# Altium footprint library LacewingPXE_v3p1.PcbLib: 35 footprints (part 1 of 3)
Each footprint in its own frame and in the unit in brackets; x right, y up, seen from the top. Pads: shape width x height; smd on the part's side, far side on the other; paste and mask are expansions set on the pad; w line width, h text height; cw(c..) or ccw(c..) is an arc to the next point about the centre after c.
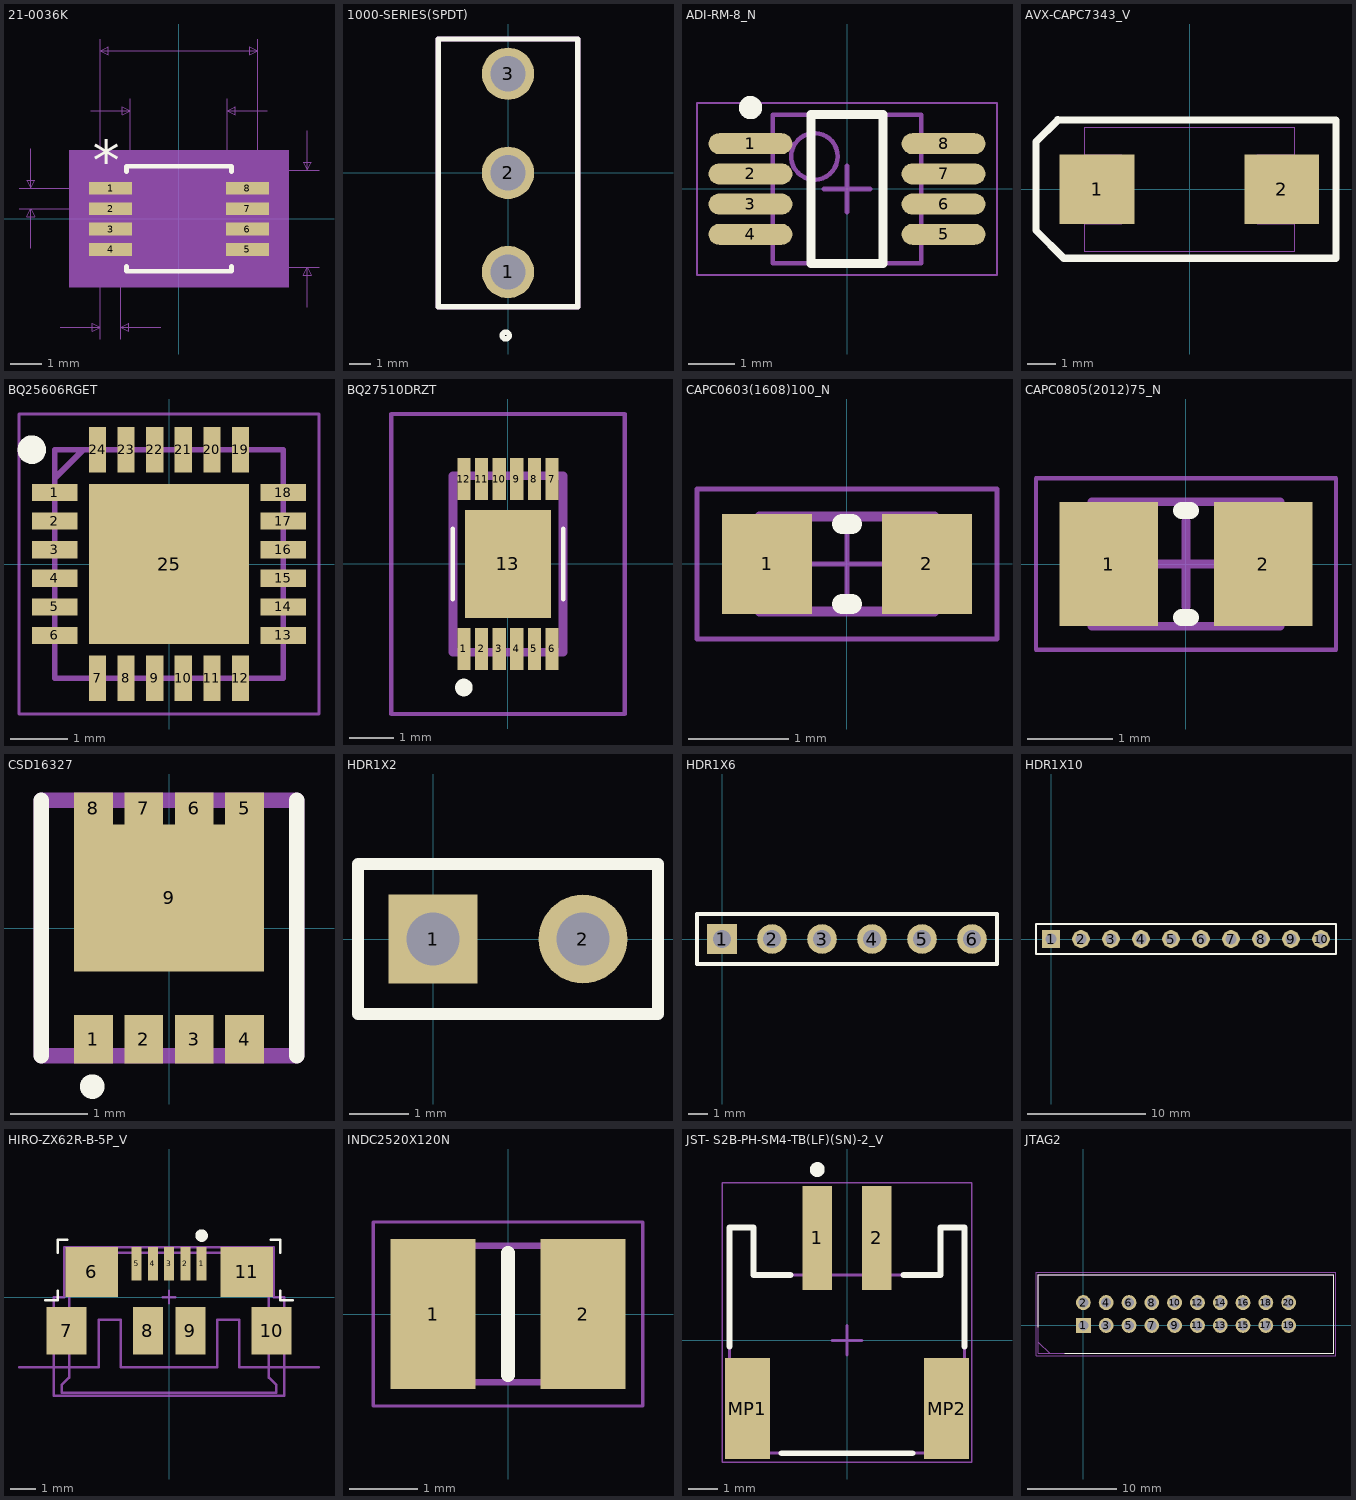
[diagram p0: the footprints below, top view; thin cyan lines are the x and y axes]

## 21-0036K [mil]
pads (8):
  rect 54x16 smd paste+0 mask+0: 1(-86,38.39) 2(-86,12.8) 3(-86,-12.8) 4(-86,-38.39) 5(86,-38.39) 6(86,-12.8) 7(86,12.8) 8(86,38.39)
Top Overlay:
  lines w6: -66,-59.49 -66,-66 66,-66 66,-59.49 ; -66,59.49 -66,66 66,66 66,59.49
  text "*" at -108.5,49.39 h50
Mechanical 5:
  region: 138,-86 -138,-86 -138,86 138,86
Mechanical 7:
  lines w1: -201,12.8 -86,12.8 ; -201,38.39 -86,38.39 ; -186,-37.2 -186,12.8 ; -186,88.39 -186,38.39 ; -149,-136 -99,-136 ; -111,136 -61,136 ; -99,-151 -99,0 -99,226 ; -73,-151 -73,0 ; -61,0 -61,151 ; -23,-136 -73,-136 ; 0,-61 176,-61 ; 0,61 176,61 ; 61,0 61,151 ; 99,0 99,226 ; 111,136 61,136 ; 161,-111 161,-61 ; 161,111 161,61 ; -186,12.8 -181,2.8 -191,2.8 -186,12.8 ; -186,38.39 -181,48.39 -191,48.39 -186,38.39 ; -99,-136 -109,-141 -109,-131 -99,-136 ; -99,211 -89,206 -89,216 -99,211 ; -99,211 99,211 ; -73,-136 -63,-141 -63,-131 -73,-136 ; -61,136 -71,131 -71,141 -61,136 ; 61,136 71,131 71,141 61,136 ; 99,211 89,206 89,216 99,211 ; 161,-61 166,-71 156,-71 161,-61 ; 161,61 166,71 156,71 161,61
  text "0.026in/0.66mm" at -173.5,-181 h25
  text "0.026in/0.65mm" at -381,13.09 h25
  text "0.122in/3.099mm" at 181,-12.5 h25
  text "0.198in/5.029mm" at -93.75,231 h25
  text "0.122in/3.099mm" at -93.75,156 h25
  text "Alt 2 Padstyle: OX90Y60D30P" at -337.5,-561 h50
  text "Alt 1 Padstyle: OX60Y90D30P" at -337.5,-501 h50
  text "Pin One Padstyle: RX54Y16D0T" at -350,-321 h50
  text "Default Padstyle: RX54Y16D0T" at -350,-261 h50
Mechanical 13:
  lines w0: -12,61 ccw(c0,61) 12,61
  lines w1: -99,-45.39 -61,-45.39 -61,-31.39 -99,-31.39 -99,-45.39 ; -99,-19.8 -61,-19.8 -61,-5.8 -99,-5.8 -99,-19.8 ; -99,5.8 -61,5.8 -61,19.8 -99,19.8 -99,5.8 ; -99,31.39 -61,31.39 -61,45.39 -99,45.39 -99,31.39 ; -61,-61 -61,61 61,61 61,-61 -61,-61 ; 61,-45.39 99,-45.39 99,-31.39 61,-31.39 61,-45.39 ; 61,-19.8 99,-19.8 99,-5.8 61,-5.8 61,-19.8 ; 61,5.8 99,5.8 99,19.8 61,19.8 61,5.8 ; 61,31.39 99,31.39 99,45.39 61,45.39 61,31.39
  text "*" at -58.5,8 h50
Mechanical 15:
  region: -71,-56.39 -123,-56.39 -123,56.39 -71,56.39 -71,71 71,71 71,56.39 123,56.39 123,-56.39 71,-56.39 71,-71 -71,-71
  lines w6: -123,-56.39 -71,-56.39 -71,-71 71,-71 71,-56.39 123,-56.39 123,56.39 71,56.39 71,71 -71,71 -71,56.39 -123,56.39 -123,-56.39
3D body: height 10, standoff 0, extent 0,0 10,10

## 1000-SERIES(SPDT) [mm]
pads (3):
  round 2.48 hole 1.68: 1(0,-4.7) 2(0,0) 3(0,4.7)
Top Overlay:
  circle w0.254: c-0.109,-7.714 r0.164
  lines w0.254: -3.3,-6.35 3.3,-6.35 3.3,6.35 -3.3,6.35 -3.3,-6.35
Mechanical 13:
  lines w0.254: -3.3,-6.35 -3.3,6.35 3.3,6.35 3.3,-6.35 -3.3,-6.35

## ADI-RM-8_N [mm] "SOP, 8-Leads, Body 3x3mm, Pitch 0.65mm, IPC Medium Density"
height 1.1
pads (8):
  oval 1.8x0.45 smd: 1(-2.075,0.975) 2(-2.075,0.325) 3(-2.075,-0.325) 4(-2.075,-0.975) 5(2.075,-0.975) 6(2.075,-0.325) 7(2.075,0.325) 8(2.075,0.975)
Top Overlay:
  circle w0.25: c-2.075,1.75 r0.125
  lines w0.2: -0.775,-1.6 0.775,-1.6 0.775,1.6 -0.775,1.6 -0.775,-1.6
Mechanical 13:
  circle w0.1: c-0.7,0.7 r0.5
  lines w0.1: -1.6,-1.6 1.6,-1.6 1.6,1.6 -1.6,1.6 -1.6,-1.6
Mechanical 15:
  lines w0.05: -3.225,-1.85 3.225,-1.85 3.225,1.85 -3.225,1.85 -3.225,-1.85
  lines w0.1: -0.5,0 0.5,0 ; 0,-0.5 0,0.5
3D body: height 1.1, standoff 0, extent -1.6,-1.6 1.6,1.6

## AVX-CAPC7343_V [mm] "SMT Capacitor, 2 Leads, Body 7.3x4.3mm"
pads (2):
  rect 2.6x2.4 smd: 1(-3.202,0.007) 2(3.198,0.007)
Top Overlay:
  lines w0.254: -4.575,2.4 -5.325,1.65 -5.325,-1.425 -4.362,-2.388 ; -4.572,2.413 5.08,2.406 ; -4.369,-2.388 5.08,-2.388 5.08,2.388
Mechanical 7:
  lines w0.025: -3.651,-1.192 -2.351,-1.192 -2.351,1.208 -3.651,1.208 ; 3.649,-1.192 2.349,-1.192 2.349,1.208 3.649,1.208 ; -3.651,-2.142 -3.651,2.158 3.649,2.158 3.649,-2.142 -3.651,-2.142
  text ".Comment" at -3.575,-2.025 h0.6
  text ".Designator" at -3.575,1.375 h0.6
3D body: height 4.05, standoff 3.9, extent -2.468,-2.017 -1.993,2.005
3D body: height 2.9, standoff 0, extent -3.464,-2.032 3.481,2.039
3D body: height 0.3, standoff 0, extent -3.487,-0.869 -3.392,0.82
3D body: height 0.3, standoff 0, extent 3.308,-0.855 3.512,0.915

## BQ25606RGET [mm] "QFN50P400X400X100-25N"
pads (25):
  rect 0.8x0.3 smd: 1(-2,1.25) 2(-2,0.75) 3(-2,0.25) 4(-2,-0.25) 5(-2,-0.75) 6(-2,-1.25) 13(2,-1.25) 14(2,-0.75) 15(2,-0.25) 16(2,0.25) 17(2,0.75) 18(2,1.25)
  rect 0.3x0.8 smd: 7(-1.25,-2) 8(-0.75,-2) 9(-0.25,-2) 10(0.25,-2) 11(0.75,-2) 12(1.25,-2) 19(1.25,2) 20(0.75,2) 21(0.25,2) 22(-0.25,2) 23(-0.75,2) 24(-1.25,2)
  rect 2.8x2.8 smd: 25(0,0)
Top Overlay:
  circle w0.25: c-2.4,2 r0.125
Mechanical 13:
  lines w0.1: -2,1.5 -1.5,2 ; -2,-2 2,-2 2,2 -2,2 -2,-2
Mechanical 15:
  lines w0.05: -2.625,-2.625 2.625,-2.625 2.625,2.625 -2.625,2.625 -2.625,-2.625
3D body "BQ25606RGET.stp": height 1, standoff 0, extent -2.05,-2.05 2.05,2.05

## BQ27510DRZT [mm]
pads (13):
  rect 0.3x0.95 smd: 1(-1,-1.925) 2(-0.6,-1.925) 3(-0.2,-1.925) 4(0.2,-1.925) 5(0.6,-1.925) 6(1,-1.925) 7(1,1.925) 8(0.6,1.925) 9(0.2,1.925) 10(-0.2,1.925) 11(-0.6,1.925) 12(-1,1.925)
  rect 1.95x2.45 smd: 13(0,0)
Top Overlay:
  lines w0.1: -1.25,-0.8 -1.25,0.8 ; 1.25,-0.8 1.25,0.8
  lines w0.2: -1.1,-2.8 ccw(c-1,-2.8) -0.9,-2.8 ccw(c-1,-2.8) -1.1,-2.8
Mechanical 13:
  lines w0.2: -1.25,-2 1.25,-2 1.25,2 -1.25,2 -1.25,-2
Mechanical 15:
  lines w0.1: -2.65,-3.4 2.65,-3.4 2.65,3.4 -2.65,3.4 -2.65,-3.4

## CAPC0603(1608)100_N [mm] "Chip Capacitor, Body 1.6x0.8mm, Height 1.0mm, IPC Medium Density"
height 1
pads (2):
  rect 0.9x1 smd: 1(-0.8,0) 2(0.8,0)
Top Overlay:
  lines w0.2: -0.05,-0.4 0.05,-0.4 ; -0.05,0.4 0.05,0.4
Mechanical 13:
  lines w0.1: -0.875,-0.475 0.875,-0.475 0.875,0.475 -0.875,0.475 -0.875,-0.475
Mechanical 15:
  lines w0.05: -0.475,0 0.475,0 ; 0,-0.475 0,0.475 ; -1.5,-0.75 1.5,-0.75 1.5,0.75 -1.5,0.75 -1.5,-0.75
3D body: height 1, standoff 0, extent 0.525,-0.475 0.875,0.475
3D body: height 1, standoff 0, extent -0.875,-0.475 -0.525,0.475
3D body: height 1, standoff 0, extent -0.525,-0.475 0.525,0.475

## CAPC0805(2012)75_N [mm] "Chip Capacitor, Body 2.0x1.2mm, Height 0.75mm, IPC Medium Density"
height 0.75
pads (2):
  rect 1.15x1.45 smd: 1(-0.9,0) 2(0.9,0)
Top Overlay:
  lines w0.2: -0.05,-0.625 0.05,-0.625 ; -0.05,0.625 0.05,0.625
Mechanical 13:
  lines w0.1: -1.1,-0.725 -1.1,0.725 1.1,0.725 1.1,-0.725 -1.1,-0.725
Mechanical 15:
  lines w0.05: -1.75,-1 -1.75,1 1.75,1 1.75,-1 -1.75,-1
  lines w0.1: -0.5,0 0.5,0 ; 0,-0.5 0,0.5
3D body: height 0.75, standoff 0, extent -0.6,-0.725 0.6,0.725
3D body: height 0.75, standoff 0, extent -1.1,-0.725 -0.6,0.725
3D body: height 0.75, standoff 0, extent 0.6,-0.725 1.1,0.725

## CSD16327 [mm] "CSD17575Q3"
pads (9):
  rect 0.5x0.63 smd: 1(-0.975,-1.435) 2(-0.325,-1.435) 3(0.325,-1.435) 4(0.975,-1.435)
  rect 0.5x0.41 smd: 5(0.975,1.545) 6(0.325,1.545) 7(-0.325,1.545) 8(-0.975,1.545)
  rect 2.45x1.9 smd: 9(0,0.39)
Top Overlay:
  circle w0.254: c-0.99,-2.045 r0.031
  lines w0.2: -1.65,-1.65 -1.65,1.65 ; 1.65,-1.65 1.65,1.65
Mechanical 13:
  lines w0.2: -1.65,-1.65 1.65,-1.65 1.65,1.65 -1.65,1.65 -1.65,-1.65

## HDR1X2 [mm] "Connector; Header; 2 Position"
pads (2):
  rect 1.5x1.5 hole 0.9: 1(0,0)
  round 1.5 hole 0.9: 2(2.54,0)
Top Overlay:
  lines w0.2: -1.27,-1.27 3.81,-1.27 3.81,1.27 -1.27,1.27 -1.27,-1.27

## HDR1X6 [mm] "Connector; Header; 6 Position"
pads (6):
  rect 1.5x1.5 hole 0.9: 1(0,0)
  round 1.5 hole 0.9: 2(2.54,0) 3(5.08,0) 4(7.62,0) 5(10.16,0) 6(12.7,0)
Top Overlay:
  lines w0.2: -1.27,-1.27 -1.27,1.27 13.97,1.27 13.97,-1.27 -1.27,-1.27

## HDR1X10 [mm] "Connector; Header; 10 Position"
pads (10):
  rect 1.5x1.5 hole 0.9: 1(0,0)
  round 1.5 hole 0.9: 2(2.54,0) 3(5.08,0) 4(7.62,0) 5(10.16,0) 6(12.7,0) 7(15.24,0) 8(17.78,0) 9(20.32,0) 10(22.86,0)
Top Overlay:
  lines w0.2: -1.27,-1.27 24.13,-1.27 24.13,1.27 0.635,1.27 -1.27,1.27 -1.27,-1.27

## HIRO-ZX62R-B-5P_V [mm] "USB Micro-B R/A Connector"
height 2.65
pads (11):
  rect 0.4x1.35 smd: 1(1.3,1.338) 2(0.65,1.338) 3(0,1.338) 4(-0.65,1.338) 5(-1.3,1.338)
  rect 2.1x2 smd: 6(-3.1,1.012) 11(3.1,1.012)
  rect 1.6x1.9 smd: 7(-4.1,-1.338) 10(4.1,-1.338)
  rect 1.2x1.9 smd: 8(-0.85,-1.338) 9(0.85,-1.338)
Top Overlay:
  circle w0.25: c1.304,2.46 r0.125
  lines w0.1: -4.953,-0.127 -4.445,-0.127 -4.445,0.254 ; -4.445,1.778 -4.445,2.286 -4.064,2.286 ; 4.064,2.286 4.445,2.286 4.445,1.778 ; 4.445,0.254 4.445,-0.127 4.953,-0.127
Mechanical 1:
  lines w0.1: -6,-2.8 -2.82,-2.8 -2.82,-0.9 -1.92,-0.9 -1.92,-2.8 0,-2.8 1.92,-2.8 1.92,-0.9 2.82,-0.9 2.82,-2.8 6,-2.8
  text "Board edge" at 5.588,-2.667 h0.2
Mechanical 13:
  lines w0.1: -4,1.78 4,1.78 ; -4,1.78 4,1.78 ; -4,1.78 -4,-0.72 -4.572,-0.72 -4.572,-1.778 -4,-1.778 -4,-3.22 -4.3,-3.52 -4.3,-3.82 4.3,-3.82 4.3,-3.52 4,-3.22 4,-1.778 4.572,-1.778 4.572,-0.72 4,-0.72 4,1.78
Mechanical 15:
  lines w0.1: -0.254,0 0.254,0 ; 0,-0.254 0,0.254 ; -4.6,-3.937 4.6,-3.937 4.6,-2.8 4.6,0 4.2,0 4.2,2 -4.2,2 -4.2,0 -4.6,0 -4.6,-2.8 -4.6,-3.937
3D body "ZX62R-B-5P.stp": height 2.71, standoff -0.23, extent -4.4,-3.953 4.4,1.778

## INDC2520X120N [mm]
pads (2):
  rect 1.25x2.2 smd: 1(-1.1,0) 2(1.1,0)
Top Overlay:
  lines w0.2: 0,-0.9 0,0.9
Mechanical 13:
  lines w0.1: -1.25,-1 -1.25,1 1.25,1 1.25,-1 -1.25,-1
Mechanical 15:
  lines w0.05: -1.975,-1.35 -1.975,1.35 1.975,1.35 1.975,-1.35 -1.975,-1.35
3D body "DFE252012F-1R0M=P2.stp": height 1.2, standoff 0, extent -1.25,-1 1.25,1

## JST- S2B-PH-SM4-TB(LF)(SN)-2_V [mm] "SMD, 2-Leads, Body 7.9x7.6mm, Pitch 2mm"
height 5.5
pads (4):
  rect 1x3.5 smd: 1(-1,3.45) 2(1,3.45)
  rect 1.5x3.4 smd: MP1(-3.35,-2.3) MP2(3.35,-2.3)
Top Overlay:
  circle w0.25: c-1,5.75 r0.125
  lines w0.2: -3.95,-0.2 -3.95,3.8 -3.15,3.8 -3.15,2.2 -1.9,2.2 ; -2.2,-3.8 2.2,-3.8 ; 1.9,2.2 3.15,2.2 3.15,3.8 3.95,3.8 3.95,-0.2
Mechanical 13:
  lines w0.1: -3.95,-3 -3.45,-3 -3.45,-3.8 3.45,-3.8 3.45,-3 3.95,-3 3.95,3.8 3.15,3.8 3.15,2.2 -3.15,2.2 -3.15,3.8 -3.95,3.8 -3.95,-3
Mechanical 15:
  lines w0.05: -4.2,-4.1 -4.2,5.3 4.2,5.3 4.2,-4.1 -4.2,-4.1
  lines w0.1: -0.5,0 0.5,0 ; 0,-0.5 0,0.5
3D body "S2B-PH-SM4-TB.STEP": height 5.6, standoff 0, extent -3.95,-3.8 3.95,4.8

## JTAG2 [mm] "Header, Vertical Shrouded, 100 mil pitch; 25 mil lead width, 20 pins, 2 rows, 10 pins per row, 1295 mil L X 346 mil W X 346 mil H body"
height 8.788
pads (20):
  rect 1.652x1.652 hole 1.101 paste-1.652: 1(0,0)
  round 1.652 hole 1.101 paste-1.652: 2(0,2.54) 3(2.54,0) 4(2.54,2.54) 5(5.08,0) 6(5.08,2.54) 7(7.62,0) 8(7.62,2.54) 9(10.16,0) 10(10.16,2.54) 11(12.7,0) 12(12.7,2.54) 13(15.24,0) 14(15.24,2.54) 15(17.78,0) 16(17.78,2.54) 17(20.32,0) 18(20.32,2.54) 19(22.86,0) 20(22.86,2.54)
Top Overlay:
  lines w0.127: -5.016,-0.195 -5.016,5.664 27.877,5.664 27.877,-3.124 -2.087,-3.124
Mechanical 11:
  lines w0.127: -5.016,-1.854 -5.016,5.664 27.877,5.664 27.877,-3.124 -3.746,-3.124 -5.016,-1.854
Mechanical 12:
  lines w0.025: -5.016,-3.124 27.877,-3.124 27.877,5.664 -5.016,5.664 -5.016,-3.124
Mechanical 15:
  circle w0.051: c0,0 r0.305
  lines w0.051: -0.406,0 0.406,0 ; 0,-0.406 0,0.406 ; -5.271,-3.378 28.13,-3.378 28.13,5.918 -5.271,5.918 -5.271,-3.378
3D body "TSS-110-01-G-D.step": height 8.89, standoff -3.3, extent -3.175,-3.556 26.035,5.918